# EAGLE library part SCH16T-K01-1 (library SCH16T-K01-1)
Gyroscopes 6-DOF XYZ-Axis gyroscope 300deg/s and XYZ-Axis accelerometer 8g (26g) Source: Datasheet <https://www.murata.com/-/media/webrenewal/products/sensor/pdf/datasheet/datasheet-sch16t-series-short.ashx?la=en-us&cvid=20240110024121000000>
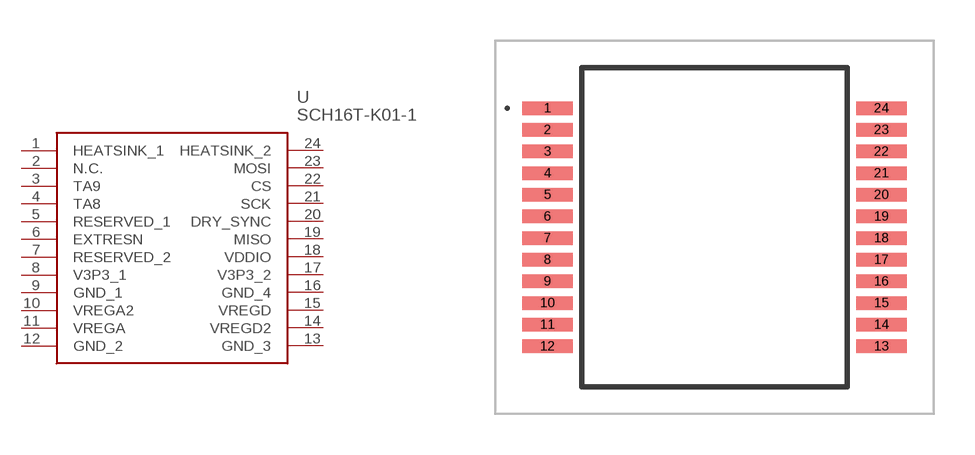
[diagram p0: symbol with the pads of SCH16TK011; footprint SCH16TK011]

Designator prefix U

## SCH16T-K01-1 (Description: Gyroscopes 6-DOF XYZ-Axis gyroscope 300deg/s and XYZ-Axis accelerometer 8g (26g); Height: 3mm; Manufacturer_Name: Murata Electronics; Manufacturer_Part_Number: SCH16T-K01-1; Mouser_Part_Number: 81-SCH16T-K01-1; Mouser_Price-Stock: https://www.mouser.co.uk/ProductDetail/Murata-Electronics/SCH16T-K01-1?qs=HFfMDpzxxd0hctvcENbFhg%3D%3D)  [SCH16TK011]
1  HEATSINK_1
2  N.C.  nc
3  TA9
4  TA8
5  RESERVED_1
6  EXTRESN
7  RESERVED_2
8  V3P3_1
9  GND_1
10  VREGA2
11  VREGA
12  GND_2
13  GND_3
14  VREGD2
15  VREGD
16  GND_4
17  V3P3_2
18  VDDIO
19  MISO
20  DRY_SYNC
21  SCK
22  CS
23  MOSI
24  HEATSINK_2

## Footprint SCH16TK011 (pad centres in mm)
SCH16T-K01
smd 1.87 x 0.5: 1 -6.165,4.4; 2 -6.165,3.6; 3 -6.165,2.8; 4 -6.165,2; 5 -6.165,1.2; 6 -6.165,0.4; 7 -6.165,-0.4; 8 -6.165,-1.2; 9 -6.165,-2; 10 -6.165,-2.8; 11 -6.165,-3.6; 12 -6.165,-4.4; 13 6.165,-4.4; 14 6.165,-3.6; 15 6.165,-2.8; 16 6.165,-2; 17 6.165,-1.2; 18 6.165,-0.4; 19 6.165,0.4; 20 6.165,1.2; 21 6.165,2; 22 6.165,2.8; 23 6.165,3.6; 24 6.165,4.4